# EAGLE library part TMM-106-XX-X-D (library con-samtec-tmm)
HEADER
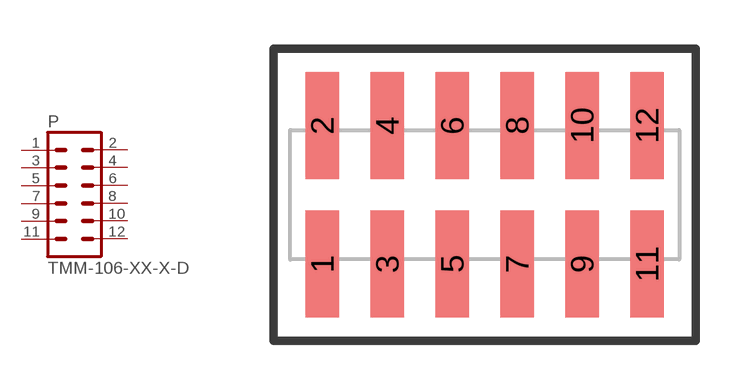
[diagram p3: symbol with the pads of TMM-106-XX-X-D; footprint TMM-106-XX-X-D]

Designator prefix P

## TMM-106-XX-X-D  [TMM-106-XX-X-D]
1  1  pas
2  2  pas
3  3  pas
4  4  pas
5  5  pas
6  6  pas
7  7  pas
8  8  pas
9  9  pas
10  10  pas
11  11  pas
12  12  pas

## Footprint TMM-106-XX-X-D (pad centres in mm)
HEADER
smd 1.02 x 3.3: 1 -5,-2.134; 2 -5,2.134; 3 -3,-2.134; 4 -3,2.134; 5 -1,-2.134; 6 -1,2.134; 7 1,-2.134; 8 1,2.134; 9 3,-2.134; 10 3,2.134; 11 5,-2.134; 12 5,2.134